# Altium schematic symbol library Resistors.SCHLIB: 9 symbols
Pins are listed as number, name and electrical type; pins without a type are passive.

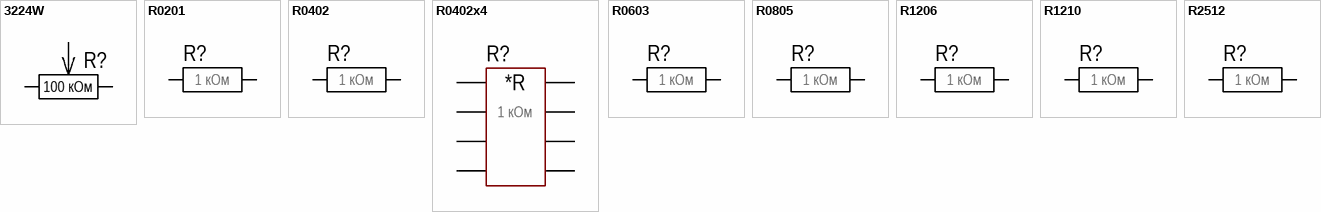
[diagram p0: symbols 3224W to R2512]

## 3224W
designator R?, comment value 100 кОм  (hidden comment: 3224W-1 100 кОм±10%)
Trimmer 3224W; Tolerance: ±10%; Package: 3224W-1
footprint 3224W
pins: 1, 2, 3

## R0201
designator R?, comment value 1 кОм  (hidden comment: 0201 1 кОм±5%)
Chip Resistor 0402; Tolerance: ±5%; Package: 0201
footprint R0201_HD (Chip Resistor, 2-Leads, Body 0.60x0.30mm, IPC High Density)
footprint R0201_LD (Chip Resistor, 2-Leads, Body 0.60x0.30mm, IPC Low Density)
footprint R0201_MD (Chip Resistor, 2-Leads, Body 0.60x0.30mm, IPC Medium Density)
pins: 1, 2

## R0402
designator R?, comment value 1 кОм  (hidden comment: 0402 1 кОм±5%)
Chip Resistor 0402; Tolerance: ±5%; Package: 0402
footprint R0402_HD (Chip Capacitor, 2-Leads, Body 1.0x0.5mm, IPC High Density)
footprint R0402_LD (Chip Capacitor, 2-Leads, Body 1.0x0.5mm, IPC Low Density)
footprint R0402_MD (Chip Capacitor, 2-Leads, Body 1.0x0.5mm, IPC Medium Density)
pins: 1, 2

## R0402x4
designator R?, comment value 1 кОм  (hidden comment: 0402x4 1 кОм±5%)
Chip Resistor Array 0402x4; Tolerance: ±5%; Package: 0402x4
footprint R0402x4
pins: 1, 2, 3, 4, 5, 6, 7, 8
text: *R

## R0603
designator R?, comment value 1 кОм  (hidden comment: 0603 1 кОм±5%)
Chip Resistor 0603; Tolerance: ±5%; Package: 0603
footprint R0603_MD (Chip Resistor, 2-Leads, Body 1.6x0.8mm, IPC Medium Density Density)
footprint R0603_LD (Chip Resistor, 2-Leads, Body 1.6x0.8mm, IPC Low Density)
footprint R0603_HD (Chip Resistor, 2-Leads, Body 1.6x0.8mm, IPC High Density)
pins: 1, 2

## R0805
designator R?, comment value 1 кОм  (hidden comment: 0805 1 кОм±5%)
Chip Resistor 0805; Tolerance: ±5%; Package: 0805
footprint R0805_MD (Chip Resistor, 2-Leads, Body 2.0x1.25mm, IPC Medium Density)
footprint R0805_LD (Chip Resistor, 2-Leads, Body 2.0x1.25mm, IPC Low Density)
footprint R0805_HD (Chip Resistor, 2-Leads, Body 2.0x1.25mm, IPC High Density)
pins: 1, 2

## R1206
designator R?, comment value 1 кОм  (hidden comment: 1206 1 кОм±5%)
Chip Resistor 1206; Tolerance: ±5%; Package: 1206
footprint R1206_HD (Chip Resistor, 2-Leads, Body 3.2x1.6mm, IPC High Density)
footprint R1206_LD (Chip Resistor, 2-Leads, Body 3.2x1.6mm, IPC Low Density)
footprint R1206_MD (Chip Resistor, 2-Leads, Body 3.2x1.6mm, IPC Medium Density)
pins: 1, 2

## R1210
designator R?, comment value 1 кОм  (hidden comment: 1210 1 кОм±5%)
Chip Resistor 1210; Tolerance: ±5%; Package: 1210
footprint R1210_HD (Chip Resistor, 2-Leads, Body 3.2x2.6mm, IPC High Density)
footprint R1210_LD (Chip Resistor, 2-Leads, Body 3.2x2.6mm, IPC Low Density)
footprint R1210_MD (Chip Resistor, 2-Leads, Body 3.2x2.6mm, IPC Medium Density)
pins: 1, 2

## R2512
designator R?, comment value 1 кОм  (hidden comment: 2512 1 кОм±5%)
Chip Resistor 2512; Tolerance: ±5%; Package: 2512
footprint R2512
pins: 1, 2